# EAGLE library part DAC_BU3616K (library akita)
Rohm's VGA DAC (5V)
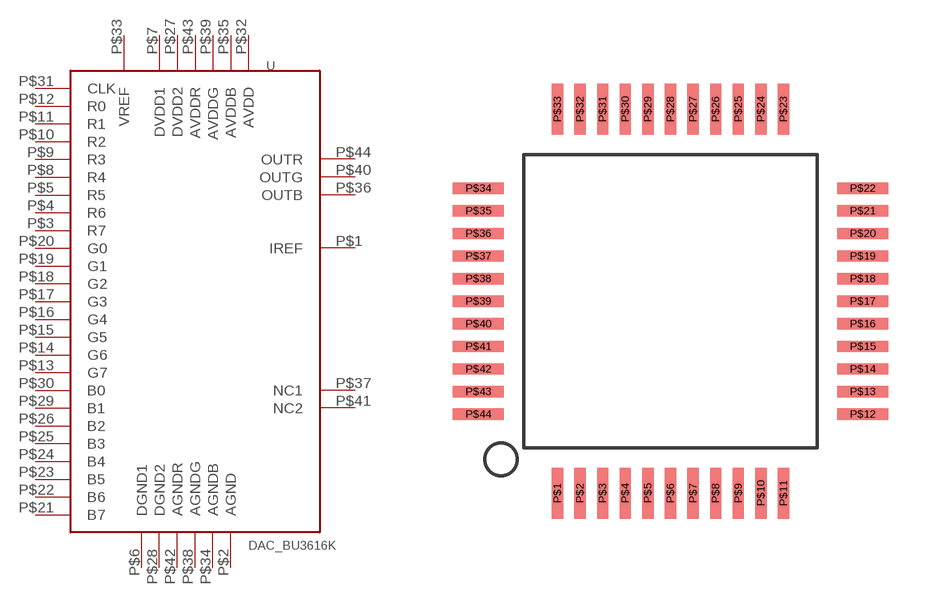
[diagram p117: symbol with the pads of QFP44_08MM; footprint QFP44_08MM]

Designator prefix U

## DAC_BU3616K  [QFP44_08MM]
P$1  IREF
P$2  AGND
P$3  R7
P$4  R6
P$5  R5
P$6  DGND1
P$7  DVDD1
P$8  R4
P$9  R3
P$10  R2
P$11  R1
P$12  R0
P$13  G7
P$14  G6
P$15  G5
P$16  G4
P$17  G3
P$18  G2
P$19  G1
P$20  G0
P$21  B7
P$22  B6
P$23  B5
P$24  B4
P$25  B3
P$26  B2
P$27  DVDD2
P$28  DGND2
P$29  B1
P$30  B0
P$31  CLK
P$32  AVDD
P$33  VREF
P$34  AGNDB
P$35  AVDDB
P$36  OUTB
P$37  NC1
P$38  AGNDG
P$39  AVDDG
P$40  OUTG
P$41  NC2
P$42  AGNDR
P$43  AVDDR
P$44  OUTR

## Footprint QFP44_08MM (pad centres in mm)
smd 0.4 x 1.8: P$1 -4,-6.8; P$2 -3.2,-6.8; P$3 -2.4,-6.8; P$4 -1.6,-6.8; P$5 -0.8,-6.8; P$6 0,-6.8; P$7 0.8,-6.8; P$8 1.6,-6.8; P$9 2.4,-6.8; P$10 3.2,-6.8; P$11 4,-6.8; P$23 4,6.8; P$24 3.2,6.8; P$25 2.4,6.8; P$26 1.6,6.8; P$27 0.8,6.8; P$28 0,6.8; P$29 -0.8,6.8; P$30 -1.6,6.8; P$31 -2.4,6.8; P$32 -3.2,6.8; P$33 -4,6.8
smd 1.8 x 0.4: P$12 6.8,-4; P$13 6.8,-3.2; P$14 6.8,-2.4; P$15 6.8,-1.6; P$16 6.8,-0.8; P$17 6.8,0; P$18 6.8,0.8; P$19 6.8,1.6; P$20 6.8,2.4; P$21 6.8,3.2; P$22 6.8,4; P$34 -6.8,4; P$35 -6.8,3.2; P$36 -6.8,2.4; P$37 -6.8,1.6; P$38 -6.8,0.8; P$39 -6.8,0; P$40 -6.8,-0.8; P$41 -6.8,-1.6; P$42 -6.8,-2.4; P$43 -6.8,-3.2; P$44 -6.8,-4